# Altium footprint library AU0006A.PcbLib: 42 footprints (part 1 of 3)
Each footprint in its own frame and in the unit in brackets; x right, y up, seen from the top. Pads: shape width x height; smd on the part's side, far side on the other; paste and mask are expansions set on the pad; w line width, h text height; cw(c..) or ccw(c..) is an arc to the next point about the centre after c.
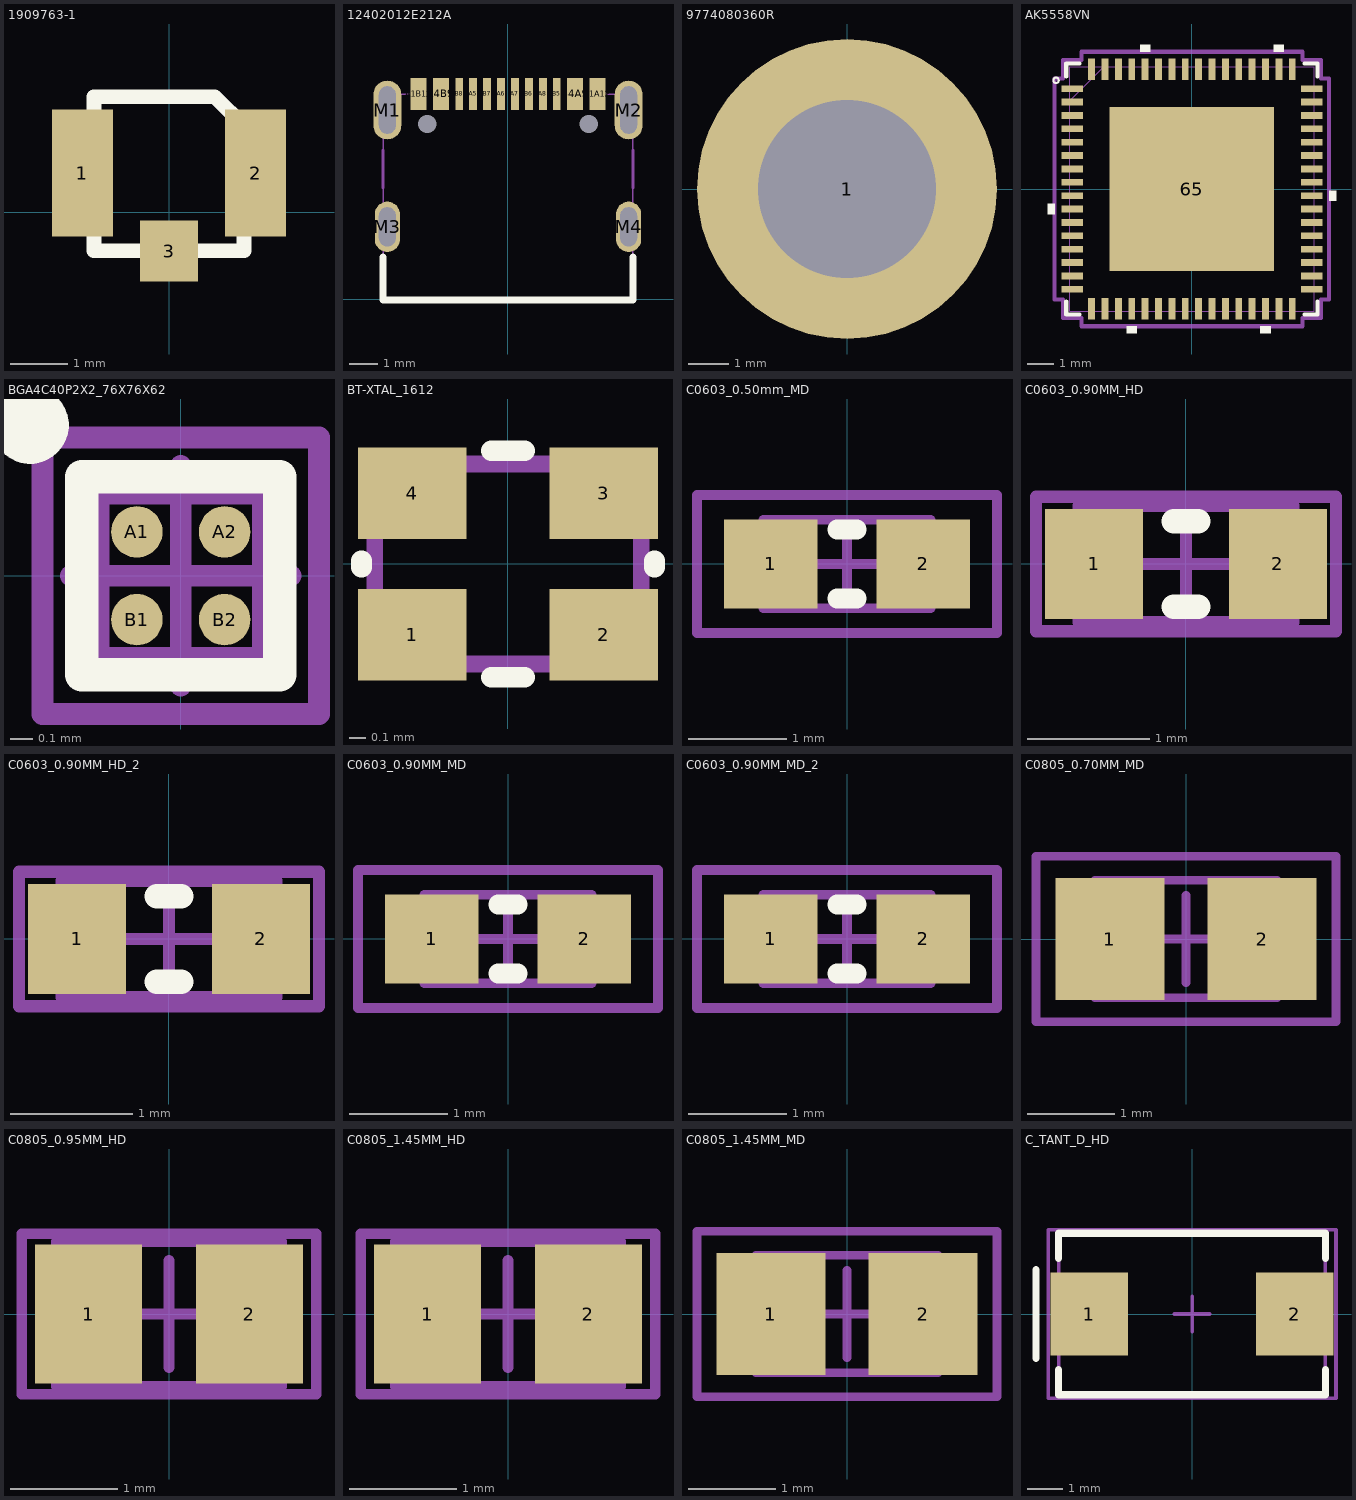
[diagram p0: the footprints below, top view; thin cyan lines are the x and y axes]

## 1909763-1 [mm] "CONN UMCC JACK STR 50OHM SMD"
height 3.1
pads (3):
  rect 1.05x2.2 smd: 1(-1.5,0.675) 2(1.5,0.675)
  rect 1x1.05 smd: 3(0,-0.675)
Top Overlay:
  lines w0.254: -1.3,-0.67 1.3,-0.67 1.3,1.494 0.794,2 -1.3,2 -1.3,0.1 -1.3,-0.67
3D body "c-1909763-1-b-3d.stp": height 1.24, standoff 0.01, extent -1.5,-0.875 1.5,2.225

## 12402012E212A [mm] "USB-C  2.0"
pads (18):
  round 0 hole 0.65: 71(2.89,6.28) ALIGN1(-2.89,6.28)
  rect 0.575x1.15 smd: A1B12(-3.2,7.355) A4B9(-2.4,7.355) B1A12(3.2,7.355) B4A9(2.4,7.355)
  rect 0.275x1.15 smd: A5(-1.25,7.355) A6(-0.25,7.355) A7(0.25,7.355) A8(1.25,7.355) B5(1.75,7.355) B6(0.75,7.355) B7(-0.75,7.355) B8(-1.75,7.355)
  oval 1x2.1 hole 0.6 slot 1.7 at 90 deg: M1(-4.32,6.78) M2(4.32,6.78)
  oval 0.9x1.8 hole 0.6 slot 1.4 at 90 deg: M3(-4.32,2.6) M4(4.32,2.6)
Top Overlay:
  lines w0.254: -4.47,1.524 -4.47,-0.025 4.47,-0.025 4.47,1.524
Top Paste:
  region: -4.826,6.782 -4.826,7.264 -4.826,7.365 -4.749,7.552 -4.606,7.695 -4.419,7.772 -4.318,7.772 -4.222,7.772 -4.045,7.699 -3.909,7.563 -3.835,7.386 -3.835,7.29 -3.835,6.782 -3.835,6.274 -3.835,6.178 -3.909,6 -4.045,5.865 -4.191,5.804 -4.45,5.804 -4.606,5.869 -4.749,6.011 -4.826,6.198 -4.826,6.299
  region: -4.813,2.603 -4.813,3.086 -4.813,3.187 -4.736,3.374 -4.593,3.517 -4.406,3.594 -4.305,3.594 -4.209,3.594 -4.032,3.521 -3.896,3.385 -3.823,3.207 -3.823,3.111 -3.823,2.604 -3.823,2.095 -3.823,2 -3.896,1.822 -4.032,1.686 -4.209,1.613 -4.305,1.613 -4.406,1.613 -4.593,1.69 -4.736,1.833 -4.813,2.02 -4.813,2.121
  region: 3.823,2.603 3.823,3.086 3.823,3.187 3.9,3.374 4.043,3.517 4.23,3.594 4.331,3.594 4.427,3.594 4.604,3.521 4.74,3.385 4.813,3.207 4.813,3.112 4.813,2.603 4.813,2.095 4.813,2 4.74,1.822 4.604,1.686 4.427,1.613 4.331,1.613 4.23,1.613 4.043,1.69 3.9,1.833 3.823,2.02 3.823,2.121
  region: 3.823,6.795 3.823,7.277 3.823,7.378 3.9,7.565 4.043,7.708 4.23,7.785 4.331,7.785 4.427,7.785 4.604,7.712 4.74,7.576 4.813,7.398 4.813,7.302 4.813,6.794 4.813,6.287 4.813,6.19 4.74,6.013 4.604,5.877 4.427,5.804 4.331,5.804 4.23,5.804 4.043,5.881 3.9,6.024 3.823,6.211 3.823,6.312
Bottom Assembly:
  lines w0.05: -3.53,7.35 -4.47,7.35 -4.47,0 4.47,0 4.47,7.35 3.53,7.35
Route Tool Path:
  lines w0: -4.62,2.3 ccw(c-4.32,2.3) -4.32,2 ccw(c-4.32,2.3) -4.02,2.3 -4.02,2.9 ccw(c-4.32,2.9) -4.32,3.2 ccw(c-4.32,2.9) -4.62,2.9 -4.62,2.3 ; -4.62,6.23 ccw(c-4.32,6.23) -4.32,5.93 ccw(c-4.32,6.23) -4.02,6.23 -4.02,7.33 ccw(c-4.32,7.33) -4.32,7.63 ccw(c-4.32,7.33) -4.62,7.33 -4.62,6.23 ; 4.02,2.3 ccw(c4.32,2.3) 4.32,2 ccw(c4.32,2.3) 4.62,2.3 4.62,2.9 ccw(c4.32,2.9) 4.32,3.2 ccw(c4.32,2.9) 4.02,2.9 4.02,2.3 ; 4.02,6.23 ccw(c4.32,6.23) 4.32,5.93 ccw(c4.32,6.23) 4.62,6.23 4.62,7.33 ccw(c4.32,7.33) 4.32,7.63 ccw(c4.32,7.33) 4.02,7.33 4.02,6.23
Mechanical 7:
  lines w0.102: -4.47,1.35 -4.47,0 4.47,0 4.47,1.35 ; -4.47,4 -4.47,5.35 ; 4.47,4 4.47,5.35
3D body "C12402012-3.stp": height 3.27, standoff -0.89, extent -4.47,-0.015 4.47,7.585

## 9774080360R [mm] "ROUND STANDOFF M3X0.5 STEEL 8MM"
height 2.4
pads (1):
  round 7.4 hole 4.4 paste-5: 1(0,0)
Top Paste:
  lines w1.5: -2.766,-1.026 ccw(c0,0) -1.07,-2.749 ; -2.749,1.071 cw(c0,0) -1.087,2.742 ; 1.126,-2.727 ccw(c0,0) 2.768,-1.02 ; 1.135,2.723 cw(c0,0) 2.757,1.05
3D body "9774080360R (rev1).stp": height 8.01, standoff -1.39, extent -2.988,-2.997 3,2.997

## AK5558VN [mil] "IC ADC, Audio 32 bit 768k DSD, PCM 64-QFN (9x9)"
height 109.06
pads (65):
  rect 31.68x10 smd paste+0 mask+0: 1(-176.16,147.64) 2(-176.16,127.95) 3(-176.16,108.27) 4(-176.16,88.58) 5(-176.16,68.9) 6(-176.16,49.21) 7(-176.16,29.53) 8(-176.16,9.84) 9(-176.16,-9.84) 10(-176.16,-29.53) 11(-176.16,-49.21) 12(-176.16,-68.9) 13(-176.16,-88.58) 14(-176.16,-108.27) 15(-176.16,-127.95) 16(-176.16,-147.64) 33(176.16,-147.64) 34(176.16,-127.95) 35(176.16,-108.27) 36(176.16,-88.58) 37(176.16,-68.9) 38(176.16,-49.21) 39(176.16,-29.53) 40(176.16,-9.84) 41(176.16,9.84) 42(176.16,29.53) 43(176.16,49.21) 44(176.16,68.9) 45(176.16,88.58) 46(176.16,108.27) 47(176.16,127.95) 48(176.16,147.64)
  rect 10x31.68 smd paste+0 mask+0: 17(-147.64,-176.16) 18(-127.95,-176.16) 19(-108.27,-176.16) 20(-88.58,-176.16) 21(-68.9,-176.16) 22(-49.21,-176.16) 23(-29.53,-176.16) 24(-9.84,-176.16) 25(9.84,-176.16) 26(29.53,-176.16) 27(49.21,-176.16) 28(68.9,-176.16) 29(88.58,-176.16) 30(108.27,-176.16) 31(127.95,-176.16) 32(147.64,-176.16) 49(147.64,176.16) 50(127.95,176.16) 51(108.27,176.16) 52(88.58,176.16) 53(68.9,176.16) 54(49.21,176.16) 55(29.53,176.16) 56(9.84,176.16) 57(-9.84,176.16) 58(-29.53,176.16) 59(-49.21,176.16) 60(-68.9,176.16) 61(-88.58,176.16) 62(-108.27,176.16) 63(-127.95,176.16) 64(-147.64,176.16)
  rect 242x242 smd paste-120.5 mask+0: 65(0,0)
Top Overlay:
  circle w3: c-200,160 r4
  region: -61.4,202 -76.4,202 -76.4,212 -61.4,212
  region: 135.45,202 120.45,202 120.45,212 135.45,212
  region: 202,-2.34 212,-2.34 212,-17.34 202,-17.34
  region: 115.77,-202 100.77,-202 100.77,-212 115.77,-212
  region: -81.08,-202 -96.08,-202 -96.08,-212 -81.08,-212
  region: -202,-22.03 -212,-22.03 -212,-37.03 -202,-37.03
  lines w6: -185,-165.74 -185,-185 -165.74,-185 ; -185,165.74 -185,185 -165.74,185 ; 165.74,-185 185,-185 185,-165.74 ; 165.74,185 185,185 185,165.74
Top Paste:
  region: 117.06,-64.44 64.44,-64.44 64.44,-117.06 117.06,-117.06
  region: 117.06,-3.94 64.44,-3.94 64.44,-56.56 117.06,-56.56
  region: 117.06,56.56 64.44,56.56 64.44,3.94 117.06,3.94
  region: 117.06,117.06 64.44,117.06 64.44,64.44 117.06,64.44
  region: 56.56,-64.44 3.94,-64.44 3.94,-117.06 56.56,-117.06
  region: 56.56,-3.94 3.94,-3.94 3.94,-56.56 56.56,-56.56
  region: 56.56,56.56 3.94,56.56 3.94,3.94 56.56,3.94
  region: 56.56,117.06 3.94,117.06 3.94,64.44 56.56,64.44
  region: -3.94,-64.44 -56.56,-64.44 -56.56,-117.06 -3.94,-117.06
  region: -3.94,-3.94 -56.56,-3.94 -56.56,-56.56 -3.94,-56.56
  region: -3.94,56.56 -56.56,56.56 -56.56,3.94 -3.94,3.94
  region: -3.94,117.06 -56.56,117.06 -56.56,64.44 -3.94,64.44
  region: -64.44,-64.44 -117.06,-64.44 -117.06,-117.06 -64.44,-117.06
  region: -64.44,-3.94 -117.06,-3.94 -117.06,-56.56 -64.44,-56.56
  region: -64.44,56.56 -117.06,56.56 -117.06,3.94 -64.44,3.94
  region: -64.44,117.06 -117.06,117.06 -117.06,64.44 -64.44,64.44
Mechanical 13:
  lines w1: -180,130 -130,180 ; -180,-180 -180,180 180,180 180,-180 -180,-180 ; -180,-153.64 -180,-141.64 -180,-153.64 ; -180,-133.95 -180,-121.95 -180,-133.95 ; -180,-114.27 -180,-102.27 -180,-114.27 ; -180,-94.58 -180,-82.58 -180,-94.58 ; -180,-74.9 -180,-62.9 -180,-74.9 ; -180,-55.21 -180,-43.21 -180,-55.21 ; -180,-35.53 -180,-23.53 -180,-35.53 ; -180,-15.84 -180,-3.84 -180,-15.84 ; -180,3.84 -180,15.84 -180,3.84 ; -180,23.53 -180,35.53 -180,23.53 ; -180,43.21 -180,55.21 -180,43.21 ; -180,62.9 -180,74.9 -180,62.9 ; -180,82.58 -180,94.58 -180,82.58 ; -180,102.27 -180,114.27 -180,102.27 ; -180,121.95 -180,133.95 -180,121.95 ; -180,141.64 -180,153.64 -180,141.64 ; -153.64,-180 -141.64,-180 -153.64,-180 ; -153.64,180 -141.64,180 -153.64,180 ; -133.95,-180 -121.95,-180 -133.95,-180 ; -133.95,180 -121.95,180 -133.95,180 ; -114.27,-180 -102.27,-180 -114.27,-180 ; -114.27,180 -102.27,180 -114.27,180 ; -94.58,-180 -82.58,-180 -94.58,-180 ; -94.58,180 -82.58,180 -94.58,180 ; -74.9,-180 -62.9,-180 -74.9,-180 ; -74.9,180 -62.9,180 -74.9,180 ; -55.21,-180 -43.21,-180 -55.21,-180 ; -55.21,180 -43.21,180 -55.21,180 ; -35.53,-180 -23.53,-180 -35.53,-180 ; -35.53,180 -23.53,180 -35.53,180 ; -15.84,-180 -3.84,-180 -15.84,-180 ; -15.84,180 -3.84,180 -15.84,180 ; 3.84,-180 15.84,-180 3.84,-180 ; 3.84,180 15.84,180 3.84,180 ; 23.53,-180 35.53,-180 23.53,-180 ; 23.53,180 35.53,180 23.53,180 ; 43.21,-180 55.21,-180 43.21,-180 ; 43.21,180 55.21,180 43.21,180 ; 62.9,-180 74.9,-180 62.9,-180 ; 62.9,180 74.9,180 62.9,180 ; 82.58,-180 94.58,-180 82.58,-180 ; 82.58,180 94.58,180 82.58,180 ; 102.27,-180 114.27,-180 102.27,-180 ; 102.27,180 114.27,180 102.27,180 ; 121.95,-180 133.95,-180 121.95,-180 ; 121.95,180 133.95,180 121.95,180 ; 141.64,-180 153.64,-180 141.64,-180 ; 141.64,180 153.64,180 141.64,180 ; 180,-153.64 180,-141.64 180,-153.64 ; 180,-133.95 180,-121.95 180,-133.95 ; 180,-114.27 180,-102.27 180,-114.27 ; 180,-94.58 180,-82.58 180,-94.58 ; 180,-74.9 180,-62.9 180,-74.9 ; 180,-55.21 180,-43.21 180,-55.21 ; 180,-35.53 180,-23.53 180,-35.53 ; 180,-15.84 180,-3.84 180,-15.84 ; 180,3.84 180,15.84 180,3.84 ; 180,23.53 180,35.53 180,23.53 ; 180,43.21 180,55.21 180,43.21 ; 180,62.9 180,74.9 180,62.9 ; 180,82.58 180,94.58 180,82.58 ; 180,102.27 180,114.27 180,102.27 ; 180,121.95 180,133.95 180,121.95 ; 180,141.64 180,153.64 180,141.64
  text "*" at -172.81,132.48 h50
Mechanical 15:
  lines w6: -202,-162.64 -202,162.64 -190,162.64 -190,190 -162.64,190 -162.64,202 162.64,202 162.64,190 190,190 190,162.64 202,162.64 202,-162.64 190,-162.64 190,-190 162.64,-190 162.64,-202 -162.64,-202 -162.64,-190 -190,-190 -190,-162.64 -202,-162.64
3D body "QFN_AK5538_AKM.step": height 39.09, standoff 0, extent -180,-180 180,180

## BGA4C40P2X2_76X76X62 [mm] "BGA, 4-Leads, Body 0.8x0.8mm,  Pitch 0.40mm"
height 0.625
pads (4):
  round 0.235 smd mask+0.04: A1(-0.2,0.2) A2(0.2,0.2) B1(-0.2,-0.2) B2(0.2,-0.2)
Top Overlay:
  circle w0.254: c-0.687,0.687 r0.05
  lines w0.152: -0.451,-0.451 0.451,-0.451 0.451,0.451 -0.451,0.451 -0.451,-0.451
Mechanical 7:
  circle w0.127: c-0.2,0.2 r0.051
  lines w0.1: -0.375,-0.375 -0.375,0.375 0.375,0.375 0.375,-0.375 -0.375,-0.375
  text ".Designator" at -0.374,0.505 h0.38
Mechanical 15:
  lines w0.1: -0.5,0 0.5,0 ; 0,-0.5 0,0.5 ; -0.63,-0.63 -0.63,0.63 0.63,0.63 0.63,-0.63 -0.63,-0.63
3D body "TCK106AG,LF.step": height 0.55, standoff 0, extent -0.395,-0.395 0.395,0.395

## BT-XTAL_1612 [mm] "Crystal 1.6 x 1.2 mm"
height 0.4
pads (4):
  rect 0.65x0.55 smd: 1(-0.575,-0.425) 2(0.575,-0.425) 3(0.575,0.425) 4(-0.575,0.425)
Top Overlay:
  lines w0.125: -0.88,-0.02 -0.88,0.02 ; -0.1,-0.68 0.1,-0.68 ; -0.1,0.68 0.1,0.68 ; 0.88,-0.02 0.88,0.02
Mechanical 7:
  lines w0.1: -0.8,-0.6 0.8,-0.6 0.8,0.6 -0.8,0.6 -0.8,-0.6
  text ".Designator" at -0.6,-0.15 h0.38
3D body "User Library-Siward_AX1612.step": height 0.41, standoff 0, extent -0.83,-0.629 0.83,0.629
3D body: height 0.41, standoff 0.15, extent -0.7,-0.513 0.7,0.512

## C0603_0.50mm_MD [mm] "Capacitor 0603 - Medium Density"
height 0.65
pads (2):
  rect 0.95x0.9 smd: 1(-0.775,0) 2(0.775,0)
Top Overlay:
  lines w0.2: -0.1,-0.35 0.1,-0.35 ; -0.1,0.35 0.1,0.35
Mechanical 13:
  lines w0.1: -0.85,-0.45 0.85,-0.45 0.85,0.45 -0.85,0.45 -0.85,-0.45
Mechanical 15:
  lines w0.1: -0.45,0 0.45,0 ; 0,-0.45 0,0.45 ; -1.525,-0.7 1.525,-0.7 1.525,0.7 -1.525,0.7 -1.525,-0.7
3D body "0603_0.65mm.STEP": height 0.65, standoff 0, extent -0.8,-0.4 0.8,0.4

## C0603_0.90MM_HD [mm] "Capacitor 0603 - High Density"
height 0.9
pads (2):
  rect 0.8x0.9 smd: 1(-0.75,0) 2(0.75,0)
Top Overlay:
  lines w0.2: -0.1,-0.35 0.1,-0.35 ; -0.1,0.35 0.1,0.35
Mechanical 13:
  lines w0.1: -0.875,-0.475 -0.875,0.475 0.875,0.475 0.875,-0.475 -0.875,-0.475
Mechanical 15:
  lines w0.1: -0.475,0 0.475,0 ; 0,-0.475 0,0.475 ; -1.225,-0.55 -1.225,0.55 1.225,0.55 1.225,-0.55 -1.225,-0.55
3D body "0603_0.90mm.STEP": height 0.9, standoff 0, extent -0.8,-0.4 0.8,0.4

## C0603_0.90MM_HD_2 [mm]
pads (2):
  rect 0.8x0.9 smd: 1(-0.75,0) 2(0.75,0)
Top Overlay:
  lines w0.2: -0.1,-0.35 0.1,-0.35 ; -0.1,0.35 0.1,0.35
Mechanical 13:
  lines w0.1: -0.875,-0.475 0.875,-0.475 0.875,0.475 -0.875,0.475 -0.875,-0.475
Mechanical 15:
  lines w0.1: -0.475,0 0.475,0 ; 0,-0.475 0,0.475 ; -1.225,-0.55 1.225,-0.55 1.225,0.55 -1.225,0.55 -1.225,-0.55
3D body "0603_0.90mm.STEP": height 0.9, standoff 0, extent -0.8,-0.4 0.8,0.4

## C0603_0.90MM_MD [mm] "Capacitor 0603 - Medium Density"
height 0.9
pads (2):
  rect 0.95x0.9 smd: 1(-0.775,0) 2(0.775,0)
Top Overlay:
  lines w0.2: -0.1,-0.35 0.1,-0.35 ; -0.1,0.35 0.1,0.35
Mechanical 13:
  lines w0.1: -0.85,-0.45 -0.85,0.45 0.85,0.45 0.85,-0.45 -0.85,-0.45
Mechanical 15:
  lines w0.1: -0.45,0 0.45,0 ; 0,-0.45 0,0.45 ; -1.525,-0.7 -1.525,0.7 1.525,0.7 1.525,-0.7 -1.525,-0.7
3D body "0603_0.90mm.STEP": height 0.9, standoff 0, extent -0.8,-0.4 0.8,0.4

## C0603_0.90MM_MD_2 [mm]
pads (2):
  rect 0.95x0.9 smd: 1(-0.775,0) 2(0.775,0)
Top Overlay:
  lines w0.2: -0.1,-0.35 0.1,-0.35 ; -0.1,0.35 0.1,0.35
Mechanical 13:
  lines w0.1: -0.85,-0.45 -0.85,0.45 0.85,0.45 0.85,-0.45 -0.85,-0.45
Mechanical 15:
  lines w0.1: -0.45,0 0.45,0 ; 0,-0.45 0,0.45 ; -1.525,-0.7 -1.525,0.7 1.525,0.7 1.525,-0.7 -1.525,-0.7
3D body "0603_0.90mm.STEP": height 0.9, standoff 0, extent -0.8,-0.4 0.8,0.4

## C0805_0.70MM_MD [mm] "Capacitor - 0805 - Medium Density"
height 0.7
pads (2):
  rect 1.25x1.4 smd: 1(-0.875,0) 2(0.875,0)
Mechanical 13:
  lines w0.1: -1.05,-0.675 -1.05,0.675 1.05,0.675 1.05,-0.675 -1.05,-0.675
Mechanical 15:
  lines w0.1: -0.5,0 0.5,0 ; 0,-0.5 0,0.5 ; -1.725,-0.95 -1.725,0.95 1.725,0.95 1.725,-0.95 -1.725,-0.95
3D body "0805_0.70mm.STEP": height 0.7, standoff 0, extent -1,-0.625 1,0.625

## C0805_0.95MM_HD [mm] "Capacitor - 0805 - High Density"
height 0.95
pads (2):
  rect 1x1.3 smd: 1(-0.75,0) 2(0.75,0)
Mechanical 13:
  lines w0.1: -1.05,-0.675 -1.05,0.675 1.05,0.675 1.05,-0.675 -1.05,-0.675
Mechanical 15:
  lines w0.1: -0.5,0 0.5,0 ; 0,-0.5 0,0.5 ; -1.375,-0.75 -1.375,0.75 1.375,0.75 1.375,-0.75 -1.375,-0.75
3D body "0805_0.95mm.STEP": height 0.95, standoff 0, extent -1,-0.625 1,0.625

## C0805_1.45MM_HD [mm] "Capacitor - 0805 - High Density"
height 1.45
pads (2):
  rect 1x1.3 smd: 1(-0.75,0) 2(0.75,0)
Mechanical 13:
  lines w0.1: -1.05,-0.675 1.05,-0.675 1.05,0.675 -1.05,0.675 -1.05,-0.675
Mechanical 15:
  lines w0.1: -0.5,0 0.5,0 ; 0,-0.5 0,0.5 ; -1.375,-0.75 1.375,-0.75 1.375,0.75 -1.375,0.75 -1.375,-0.75
3D body "0805_1.45mm.STEP": height 1.45, standoff 0, extent -1,-0.635 1,0.615

## C0805_1.45MM_MD [mm] "Capacitor - 0805 - Medium Density"
height 1.45
pads (2):
  rect 1.25x1.4 smd: 1(-0.875,0) 2(0.875,0)
Mechanical 13:
  lines w0.1: -1.05,-0.675 -1.05,0.675 1.05,0.675 1.05,-0.675 -1.05,-0.675
Mechanical 15:
  lines w0.1: -0.5,0 0.5,0 ; 0,-0.5 0,0.5 ; -1.725,-0.95 -1.725,0.95 1.725,0.95 1.725,-0.95 -1.725,-0.95
3D body "0805_1.45mm.STEP": height 1.45, standoff 0, extent -1,-0.625 1,0.625

## C_TANT_D_HD [mm] "Molded Capacitor, 2-Leads, Body 7.3x4.3mm, IPC High Density"
height 3.1
pads (2):
  rect 2.2x2.35 smd: 1(-2.925,0) 2(2.925,0)
Top Overlay:
  lines w0.2: -4.445,-1.27 -4.445,1.27 ; -3.8,-1.575 -3.8,-2.3 3.8,-2.3 3.8,-1.575 ; -3.8,1.575 -3.8,2.3 3.8,2.3 3.8,1.575
Mechanical 13:
  lines w0.1: -3.8,-2.3 -3.8,2.3 3.8,2.3 3.8,-2.3 -3.8,-2.3
Mechanical 15:
  lines w0.1: -0.5,0 0.5,0 ; 0,-0.5 0,0.5 ; -4.1,-2.4 -4.1,2.4 4.1,2.4 4.1,-2.4 -4.1,-2.4
3D body "CaseD_7343-31.step": height 2.8, standoff 0, extent -3.65,-2.15 3.65,2.15